# Altium schematic symbol library LED RED THT 5mm.SchLib: 1 symbol
Pins are listed as number, name and electrical type; pins without a type are passive.

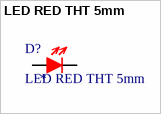
[diagram p0: symbol LED RED THT 5mm]

## LED RED THT 5mm
designator D?
LCSC: *
footprint LED RED THT 5mm
pins: 1 K, 2 A